# Altium footprint library FH12-16S-0P5SV.PcbLib: 1 footprints
Each footprint in its own frame and in the unit in brackets; x right, y up, seen from the top. Pads: shape width x height; smd on the part's side, far side on the other; paste and mask are expansions set on the pad; w line width, h text height; cw(c..) or ccw(c..) is an arc to the next point about the centre after c.
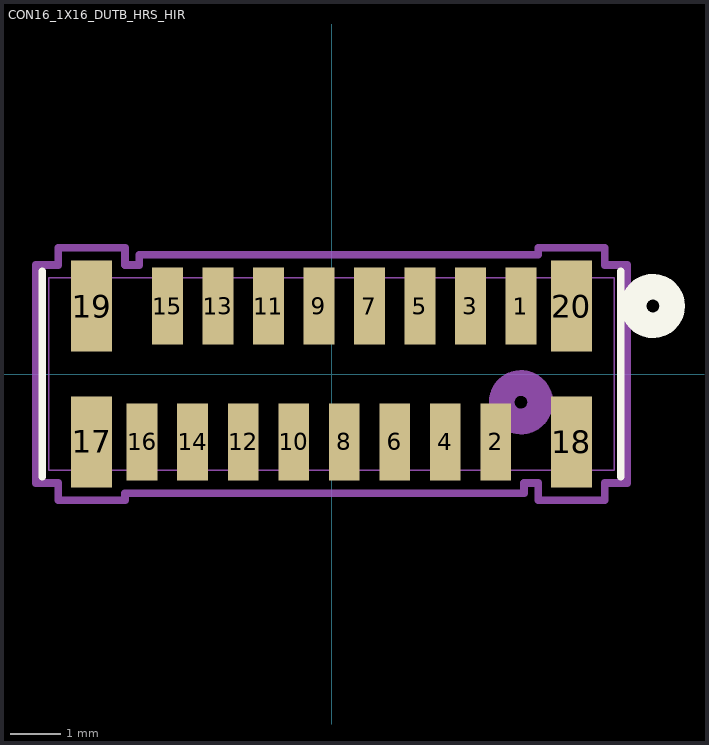
[diagram p0: the footprint, top view; thin cyan lines are the x and y axes]

## CON16_1X16_DUTB_HRS_HIR [mil]
pads (20):
  rect 24x60 smd paste+0 mask+0: 1(147.64,53) 2(127.95,-53) 3(108.27,53) 4(88.58,-53) 5(68.9,53) 6(49.21,-53) 7(29.53,53) 8(9.84,-53) 9(-9.84,53) 10(-29.53,-53) 11(-49.21,53) 12(-68.9,-53) 13(-88.58,53) 14(-108.27,-53) 15(-127.95,53) 16(-147.64,-53)
  rect 32x71 smd: 17(-187,-53) 18(187,-53) 19(-187,53) 20(187,53)
Top Overlay:
  circle w20: c250.5,53 r15
  lines w6: -225.5,-80 -225.5,80 ; 225.5,-80 225.5,80
Bottom Overlay:
  circle w20: c250.5,53 r15
Mechanical 13:
  circle w20: c147.64,-22 r15
  lines w1: -220.5,-75 -220.5,75 220.5,75 220.5,-75 -220.5,-75
Mechanical 15:
  lines w6: -230.5,-85 -213,-85 -213,-98.5 -161,-98.5 -161,-93 149.95,-93 149.95,-85 161,-85 161,-98.5 213,-98.5 213,-85 230.5,-85 230.5,85 213,85 213,98.5 161,98.5 161,93 -149.95,93 -149.95,85 -161,85 -161,98.5 -213,98.5 -213,85 -230.5,85 -230.5,-85
3D body: height 10, standoff 0, extent 0,0 10,10